# Altium footprint library HMC1001_PCB_FreeSize_V1_1.PcbLib: 28 footprints (part 1 of 2)
Each footprint in its own frame and in the unit in brackets; x right, y up, seen from the top. Pads: shape width x height; smd on the part's side, far side on the other; paste and mask are expansions set on the pad; w line width, h text height; cw(c..) or ccw(c..) is an arc to the next point about the centre after c.
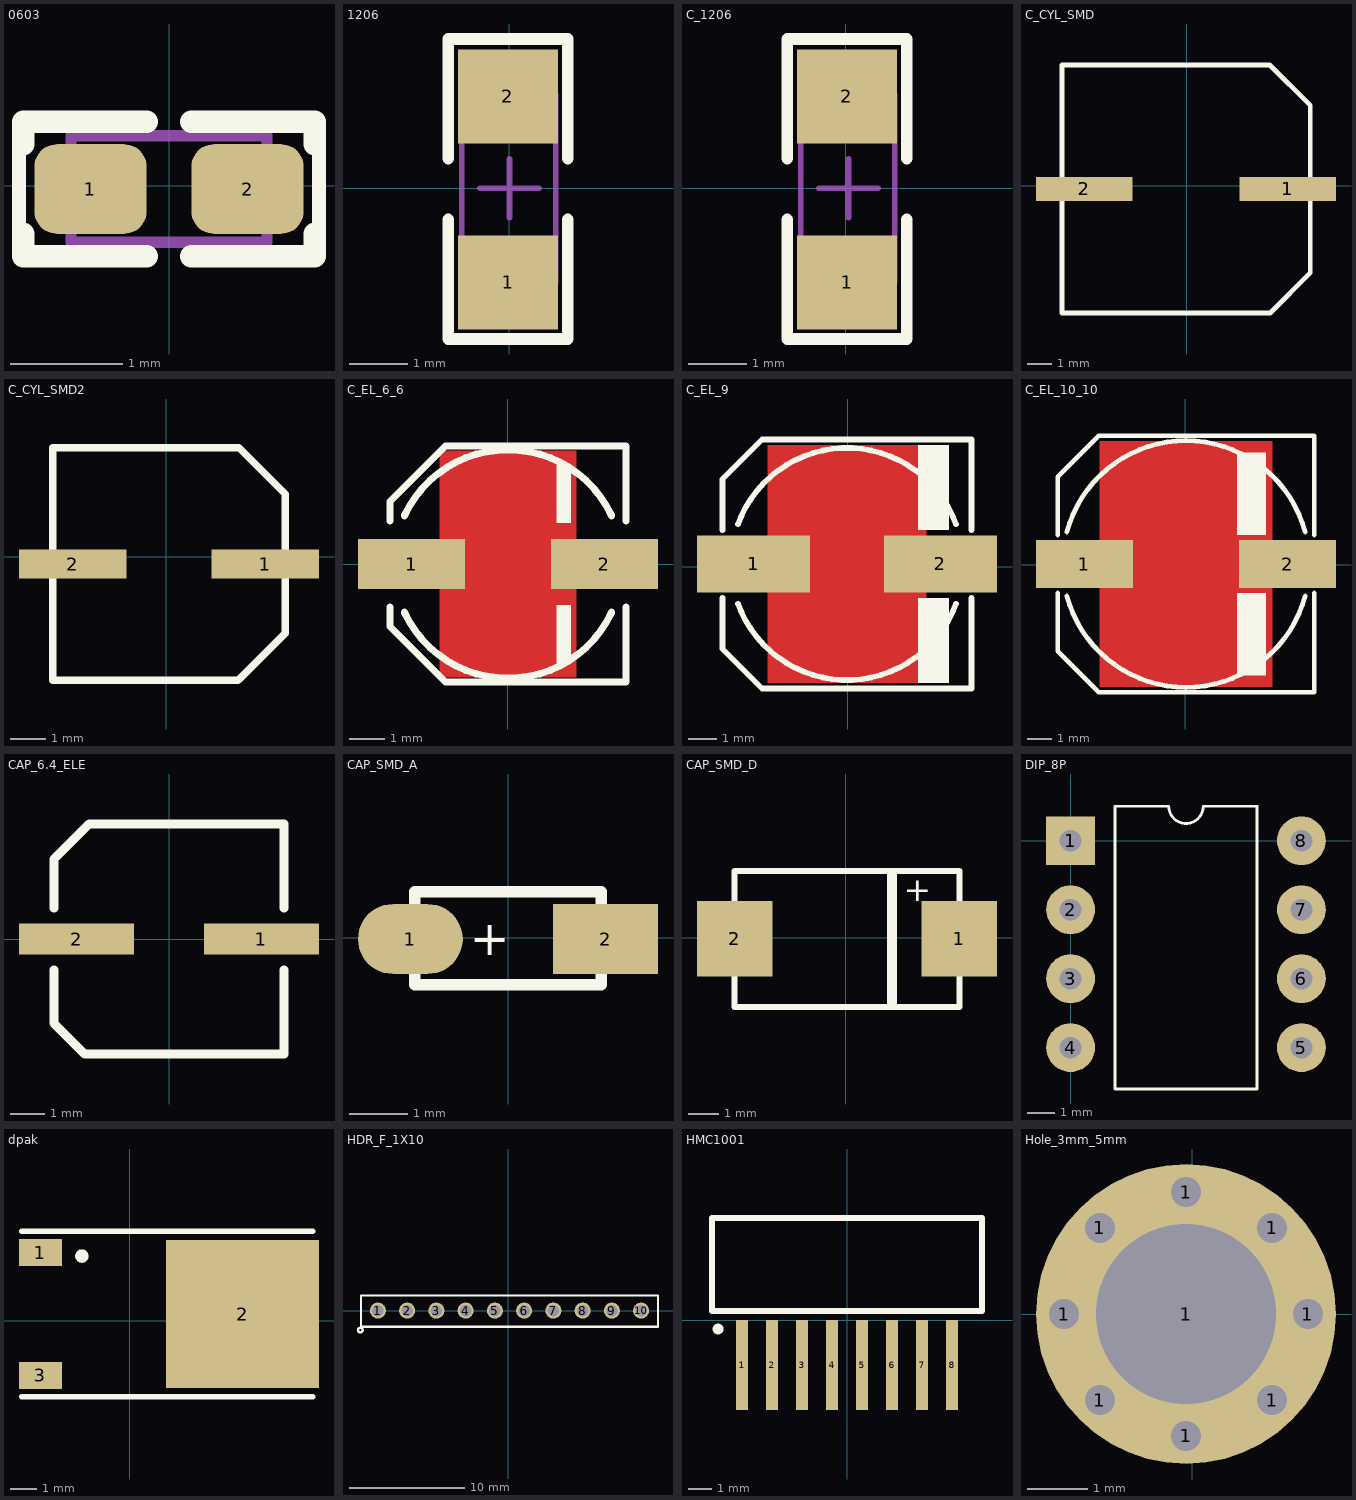
[diagram p0: the footprints below, top view; thin cyan lines are the x and y axes]

## 0603 [mm]
pads (2):
  rrect50% 1x0.8 smd mask+0.075: 1(-0.7,-0.027) 2(0.7,-0.027)
Top Overlay:
  lines w0.125: -1.337,-0.427 -1.337,0.373 ; 1.337,-0.427 1.337,0.373
  lines w0.2: -1.3,-0.427 -1.3,-0.627 -0.2,-0.627 ; -1.3,0.373 -1.3,0.573 -0.2,0.573 ; 0.2,-0.627 1.3,-0.627 1.3,-0.427 ; 0.2,0.573 1.3,0.573 1.3,0.373
Mechanical 13:
  lines w0.1: -0.875,-0.502 0.875,-0.502 0.875,0.448 -0.875,0.448 -0.875,-0.502
3D body: height 0.6, standoff 0, extent -0.875,-0.502 0.875,0.448

## 1206 [mm]
pads (2):
  rect 1.7x1.6 smd: 1(-0.025,-1.6) 2(-0.025,1.563)
Top Overlay:
  lines w0.2: -1.041,-0.533 -1.041,-2.565 0.991,-2.565 0.991,-0.533 ; -1.041,0.508 -1.041,2.54 0.991,2.54 0.991,0.508
Mechanical 15:
  lines w0.1: -0.5,0 0.5,0 ; 0,-0.5 0,0.5 ; -0.813,-1.6 0.787,-1.6 0.787,1.6 -0.813,1.6 -0.813,-1.6
3D body: height 1.1, standoff 0, extent -0.813,-1.422 0.787,1.422
3D body: height 1.1, standoff 0, extent -0.813,-1.676 0.787,-1.422
3D body: height 1.1, standoff 0, extent -0.813,1.422 0.787,1.676

## C_1206 [mm]
pads (2):
  rect 1.7x1.6 smd: 1(0.025,-1.6) 2(0.025,1.563)
Top Overlay:
  lines w0.2: -0.991,-0.533 -0.991,-2.565 1.041,-2.565 1.041,-0.533 ; -0.991,0.508 -0.991,2.54 1.041,2.54 1.041,0.508
Mechanical 15:
  lines w0.1: -0.449,0 0.551,0 ; 0.051,-0.5 0.051,0.5 ; -0.762,-1.6 0.838,-1.6 0.838,1.6 -0.762,1.6 -0.762,-1.6
3D body: height 1.1, standoff 0, extent -0.762,-1.422 0.838,1.422
3D body: height 1.1, standoff 0, extent -0.762,-1.676 0.838,-1.422
3D body: height 1.1, standoff 0, extent -0.762,1.422 0.838,1.676

## C_CYL_SMD [mm]
pads (2):
  rect 4x1 smd: 1(4.191,-0.127) 2(-4.267,-0.127)
Top Overlay:
  lines w0.2: -5.182,-5.283 3.454,-5.283 5.118,-3.619 5.118,3.34 3.441,5.017 -5.182,5.017 -5.182,-5.283
3D body: height 2, standoff 0, extent -5.182,-5.283 5.118,5.017
3D body: height 10, standoff 0, extent -5.004,-5.131 4.957,4.849

## C_CYL_SMD2 [mm]
pads (2):
  rect 3x0.8 smd: 1(2.769,-0.203) 2(-2.616,-0.203)
Top Overlay:
  lines w0.2: -3.175,-3.452 -3.175,3.048 2.032,3.048 3.325,1.755 3.325,-2.136 2.009,-3.452 -3.175,-3.452
3D body: height 1.5, standoff 0, extent -3.175,-3.452 3.325,3.048
3D body: height 5, standoff 0, extent -3.023,-3.302 3.153,2.886

## C_EL_6_6 [mm]
pads (2):
  rect 3x1.4 smd: 1(-2.692,0.003) 2(2.708,0.003)
Top Layer:
  pour cut-out: 1.913,3.178 1.913,-3.172 -1.897,-3.172 -1.897,3.178
Top Overlay:
  rectangle: 1.368,-2.797 1.768,-1.14
  rectangle: 1.368,1.146 1.768,2.803
  lines w0.2: -3.292,-1.197 -3.292,-1.747 -1.742,-3.297 3.308,-3.297 3.308,-1.197 ; -3.292,1.203 -3.292,1.753 -1.742,3.303 3.308,3.303 3.308,1.203 ; -2.892,-1.349 ccw(c0.008,0.003) 2.908,-1.349 ; -2.892,1.355 cw(c0.008,0.003) 2.908,1.355
3D body: height 5.8, standoff 0, extent -3.642,-3.297 3.658,3.303

## C_EL_9 [mm]
pads (2):
  rect 4x2 smd: 1(-3.319,0.105) 2(3.281,0.105)
Top Layer:
  pour cut-out: 2.775,4.296 2.775,-4.086 -2.813,-4.086 -2.813,4.296
Top Overlay:
  rectangle: 2.481,1.305 3.581,4.305
  rectangle: 2.481,-4.095 3.581,-1.095
  lines w0.2: -4.419,-1.095 -4.419,-2.895 -3.019,-4.295 4.381,-4.295 4.381,-1.095 ; -4.419,1.305 -4.419,3.105 -3.019,4.505 4.381,4.505 4.381,1.305 ; -3.872,-1.297 ccw(c-0.019,0.105) 3.834,-1.297 ; -3.872,1.507 cw(c-0.019,0.105) 3.834,1.507
3D body: height 10.3, standoff -0.2, extent -4.921,-4.145 4.779,4.355

## C_EL_10_10 [mm]
pads (2):
  rect 4x2 smd: 1(-4.159,0.04) 2(4.241,0.04)
Top Layer:
  pour cut-out: -3.515,5.12 -3.515,-5.04 3.597,-5.04 3.597,5.12
Top Overlay:
  rectangle: 2.141,-4.56 3.341,-1.16
  rectangle: 2.141,1.24 3.341,4.64
  lines w0.2: -5.259,-1.16 -5.259,-3.56 -3.559,-5.26 5.341,-5.26 5.341,-1.16 ; -5.259,1.24 -5.259,3.64 -3.559,5.34 5.341,5.34 5.341,1.24 ; -4.885,-1.28 ccw(c0.041,0.04) 4.967,-1.28 ; -4.885,1.36 cw(c0.041,0.04) 4.967,1.36
3D body: height 10.5, standoff 0, extent -5.987,-5.337 5.813,5.163

## CAP_6.4_ELE [mil] "10"
height 303.15
pads (2):
  rect 130x35 smd: 1(104.37,0) 2(-104.37,0)
Top Overlay:
  lines w10: -130,-35 -130,-80 -130,-95 -95,-130 130,-130 130,-35 ; -130,35 -130,90 -90,130 130,130 130,35

## CAP_SMD_A [mm]
pads (2):
  oval 1.8x1.2 smd: 1(-1.676,-0.025)
  rect 1.8x1.2 smd: 2(1.676,-0.025)
Top Overlay:
  lines w0.2: -1.6,-0.813 -1.6,0.787 1.6,0.787 1.6,-0.813 -1.6,-0.813
  text "+" at -0.66,-0.305 h0.6
3D body: height 1.7, standoff 0, extent -1.7,-0.889 1.7,0.911

## CAP_SMD_D [mm]
pads (2):
  rect 2.5x2.5 smd: 1(3.767,-0.025) 2(-3.683,-0.025)
Top Overlay:
  rectangle: 1.372,-2.286 1.702,2.214
  lines w0.2: -3.683,-2.286 3.767,-2.286 3.767,2.214 -3.683,2.214 -3.683,-2.286
  text "+" at 1.93,1.219 h0.8
3D body: height 4.2, standoff 0, extent -3.656,-2.166 3.745,2.284

## DIP_8P [mm]
pads (8):
  rect 1.8x1.8 hole 0.8: 1(0,0)
  round 1.8 hole 0.8: 2(0,-2.54) 3(0,-5.08) 4(0,-7.62) 5(8.5,-7.62) 6(8.5,-5.08) 7(8.5,-2.54) 8(8.5,0)
Top Overlay:
  lines w0.1: 1.635,-9.144 6.865,-9.144 6.865,1.27 4.885,1.27 cw(c4.25,1.27) 3.615,1.27 1.635,1.27 1.635,-9.144
3D body: height 3, standoff 0, extent 1.651,-9.144 6.858,1.27

## dpak [mm]
pads (3):
  rect 1.6x1 smd: 1(-3.319,2.539) 3(-3.319,-2.031)
  rect 5.7x5.5 smd: 2(4.208,0.254)
Top Overlay:
  circle w0.25: c-1.776,2.413 r0.125
  lines w0.2: -4.019,-2.831 6.831,-2.831 ; -4.019,3.339 6.831,3.339
3D body: height 2.44, standoff 0.03, extent -3.699,-3.048 6.239,3.492

## HDR_F_1X10 [mm] "HEADER FEMALE pitch: 2.54mm"
pads (10):
  round 1.4 / inner round 1.4 / far side oval 1.4x2.2 hole 1 mask+0.1: 1(-11.303,0) 2(-8.763,0) 3(-6.223,0) 4(-3.683,0) 5(-1.143,0) 6(1.397,0) 7(3.937,0) 8(6.477,0) 9(9.017,0) 10(11.557,0)
Top Overlay:
  circle w0.2: c-12.833,-1.7 r0.2
  lines w0.2: -12.773,-1.4 13.027,-1.4 13.027,1.3 -12.773,1.3 -12.773,-1.4
3D body: height 8.5, standoff -3.2, extent -5.078,-1.3 2.792,1.2
3D body: height 8.5, standoff -3.2, extent -12.698,-1.3 -4.828,1.2
3D body: height 8.5, standoff -3.2, extent 2.542,-1.3 7.872,1.2
3D body: height 8.5, standoff -3.2, extent 7.622,-1.3 12.952,1.2

## HMC1001 [mm]
pads (8):
  rect 0.5x3.81 smd: 1(-4.445,-1.905) 2(-3.175,-1.905) 3(-1.905,-1.905) 4(-0.635,-1.905) 5(0.635,-1.905) 6(1.905,-1.905) 7(3.175,-1.905) 8(4.445,-1.905)
Top Overlay:
  circle w0.254: c-5.461,-0.381 r0.102
  lines w0.254: -5.715,0.381 5.715,0.381 5.715,4.318 -5.715,4.318 -5.715,0.381

## Hole_3mm_5mm [mm]
pads (9):
  round 0.8 hole 0.5: 1(-2.134,0) 1(-1.538,-1.437) 1(-1.538,1.437) 1(-0.102,-2.032) 1(-0.102,2.032) 1(1.335,-1.437) 1(1.335,1.437) 1(1.93,0)
  round 5 hole 3: 1(-0.102,0)